# EAGLE library part LM3150MH (library personal)
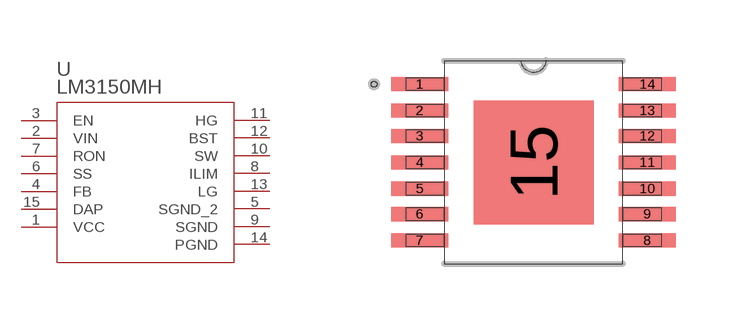
[diagram p5: symbol with the pads of MXA14A; footprint MXA14A]

Designator prefix U

## LM3150MH  [MXA14A]
1  VCC  pwr
2  VIN  pwr
3  EN  in
4  FB  in
5  SGND_2  pwr
6  SS  in
7  RON  in
8  ILIM  pas
9  SGND  pwr
10  SW  pwr
11  HG  out
12  BST  pas
13  LG  out
14  PGND  pwr
15  DAP  pwr

## Footprint MXA14A (pad centres in mm)
smd 1.422 x 0.356: 1 -2.845,1.956; 2 -2.845,1.295; 3 -2.845,0.66; 4 -2.845,0; 5 -2.845,-0.66; 6 -2.845,-1.295; 7 -2.845,-1.956; 8 2.845,-1.956; 9 2.845,-1.295; 10 2.845,-0.66; 11 2.845,0; 12 2.845,0.66; 13 2.845,1.295; 14 2.845,1.956
smd 2.997 x 3.099: 15 0,0